# Altium schematic symbol library Diode_SP3003-02UTG_LVDS_ESD.SchLib: 1 symbol
Pins are listed as number, name and electrical type; pins without a type are passive.

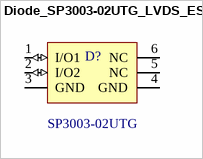
[diagram p0: symbol Diode_SP3003-02UTG_LVDS_ESD]

## Diode_SP3003-02UTG_LVDS_ESD
designator D?  Series: SP3003-02UTG  (hidden comment: Diode_SP3003-02UTG_LVDS_ESD)
ESD Suppressors / TVS Diodes 2 Ch 8KV 5V .65pF Low Cap; Supplier 1: Mouser; Supplier Part Number 1: 576-SP3003-02UTG
pins: 1 I/O1 (io), 2 I/O2 (io), 3 GND (power), 4 GND (power), 5 NC (hiz), 6 NC (hiz)